# Altium schematic symbol library GCM188R70J225KE22D.Schlib: 1 symbol
Pins are listed as number, name and electrical type; pins without a type are passive.

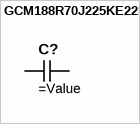
[diagram p0: symbol GCM188R70J225KE22D]

## GCM188R70J225KE22D
designator C?
CAP CER 2.2UF 6.3V X7R 0603
pins: 1, 2 1